# EAGLE library part MAX99XX (library Synapseware)
-20V to +75V Input Range, Precision Uni-/Bidirectional, Current-Sense Amplifiers
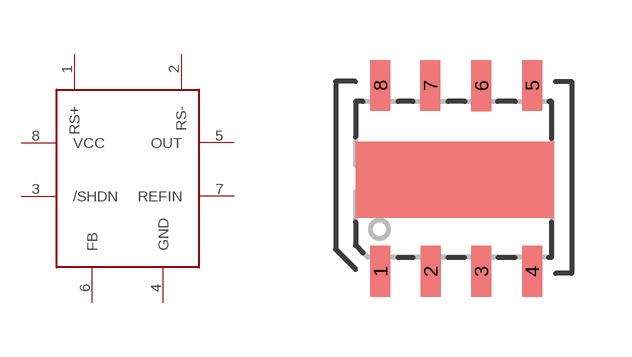
[diagram p26: symbol with the pads of POWERSO-8; footprint POWERSO-8]

Designator prefix -

## MAX99XXSOIC-8  [POWERSO-8]
1  RS+
2  RS-
3  /SHDN
4  GND
5  OUT
6  FB
7  REFIN
8  VCC

## Footprint POWERSO-8 (pad centres in mm)
PowerSO-8 Like SOIC-8, but with a heatsink layer
smd 0.5 x 1.27: 1 -1.879,-2.247; 2 -0.625,-2.247; 3 0.644,-2.247; 4 1.913,-2.247; 5 1.918,2.4; 6 0.649,2.395; 7 -0.626,2.399; 8 -1.879,2.4